# Altium schematic symbol library EL-sense_LED.SchLib: 9 symbols
Pins are listed as number, name and electrical type; pins without a type are passive.

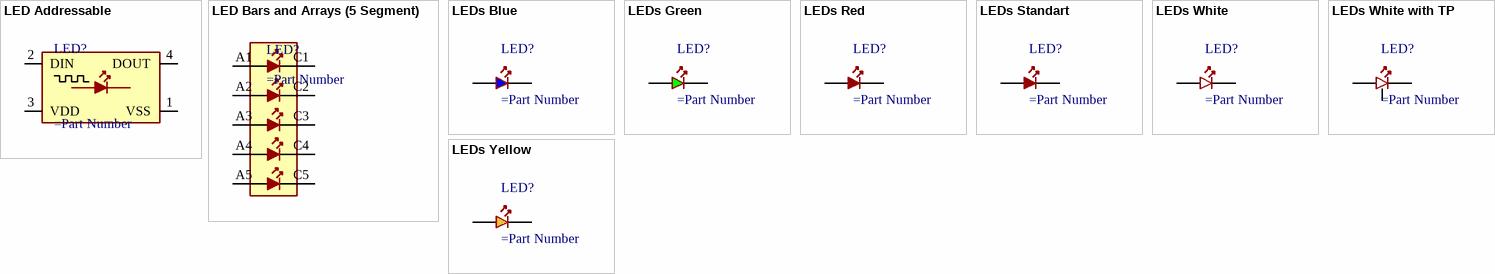
[diagram p0: symbols LED Addressable to LEDs Yellow]

## LED Addressable
designator LED?
pins: 1 VSS, 2 DIN, 3 VDD, 4 DOUT

## LED Bars and Arrays (5 Segment)
designator LED?
pins: A1, A2, A3, A4, A5, C1, C2, C3, C4, C5

## LEDs Blue
designator LED?
pins: A, C

## LEDs Green
designator LED?
pins: A, C

## LEDs Red
designator LED?
pins: A, C

## LEDs Standart
designator LED?
pins: A, C

## LEDs White
designator LED?
pins: A, C

## LEDs White with TP
designator LED?
pins: A, C, TP

## LEDs Yellow
designator LED?
pins: A, C